# Altium schematic symbol library MOLEX_39301.Schlib: 2 symbols
Pins are listed as number, name and electrical type; pins without a type are passive.

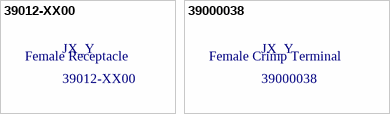
[diagram p0: symbols 39012-XX00 to 39000038]

## 39012-XX00
designator JX_Y  (mechanical)
text: Female Receptacle

## 39000038
designator JX_Y  (mechanical)
text: Female Crimp Terminal